# Altium footprint library Headnode.PcbLib: 27 footprints (part 2 of 2)
Each footprint in its own frame and in the unit in brackets; x right, y up, seen from the top. Pads: shape width x height; smd on the part's side, far side on the other; paste and mask are expansions set on the pad; w line width, h text height; cw(c..) or ccw(c..) is an arc to the next point about the centre after c.
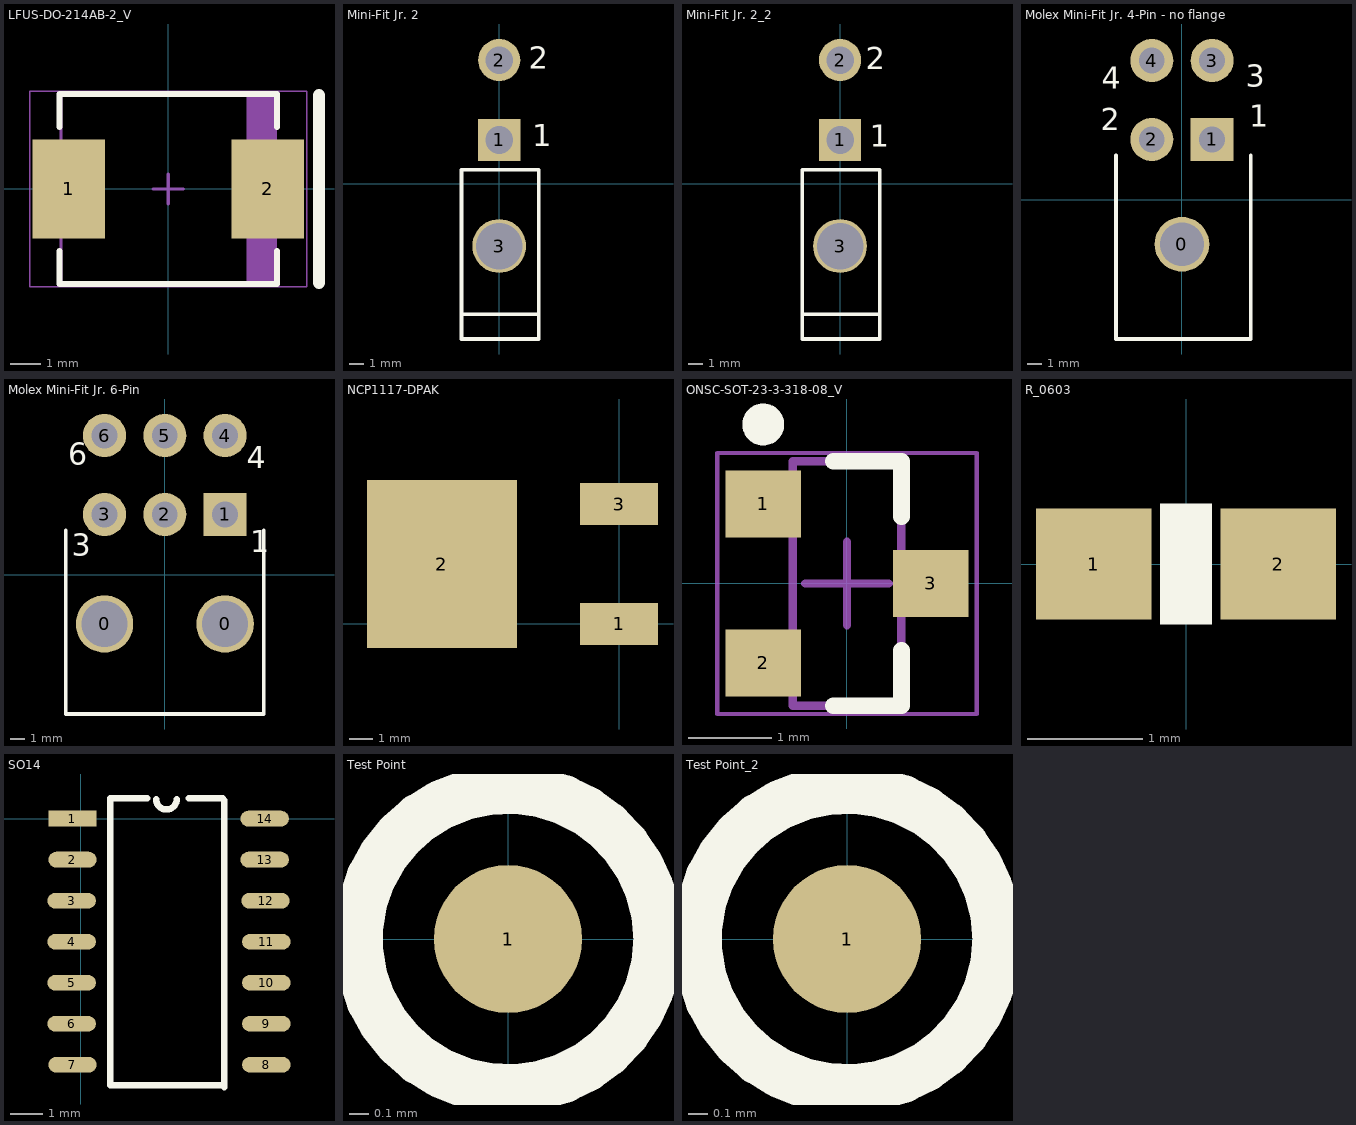
[diagram p1: the footprints below, top view; thin cyan lines are the x and y axes]

## LFUS-DO-214AB-2_V [mm]
pads (2):
  rect 2.4x3.3 smd: 1(-3.3,0) 2(3.3,0)
Top Overlay:
  lines w0.2: -3.6,-2.05 -3.6,-3.15 3.6,-3.15 3.6,-2.05 ; -3.6,2.05 -3.6,3.15 3.6,3.15 3.6,2.05
  lines w0.4: 5,-3.11 5,3.11
Mechanical 13:
  rectangle: 2.599,-3.11 3.555,3.11
  lines w0.1: -3.555,-3.11 3.555,-3.11 3.555,3.11 -3.555,3.11 -3.555,-3.11
Mechanical 15:
  lines w0.05: -4.6,-3.25 4.6,-3.25 4.6,3.25 -4.6,3.25 -4.6,-3.25
  lines w0.1: -0.5,0 0.5,0 ; 0,-0.5 0,0.5
3D body "DIOM6959X26L.step": height 2.62, standoff 0, extent -3.775,-3.11 3.775,3.11

## Mini-Fit Jr. 2 [mm]
pads (3):
  rect 2.9x2.9 hole 1.9: 1(0,3)
  round 2.9 hole 1.9: 2(0,8.5)
  round 3.7 hole 3.2: 3(0,-4.3)
Top Overlay:
  lines w0.254: -2.6,-9 2.625,-9 ; -2.6,0.95 -2.6,-10.7 2.7,-10.7 ; -2.575,0.95 2.725,0.95 2.725,-10.7
  text "2" at 2.032,7.892 h1.52
  text "1" at 2.286,2.558 h1.52
3D body "039300020.stp": height 11.4, standoff -3.6, extent -2.6,-10.867 3.2,9.068

## Mini-Fit Jr. 2_2 [mm]
pads (3):
  rect 2.9x2.9 hole 1.9: 1(0,3)
  round 2.9 hole 1.9: 2(0,8.5)
  round 3.7 hole 3.2: 3(0,-4.3)
Top Overlay:
  lines w0.254: -2.6,-9 2.625,-9 ; -2.6,0.95 -2.6,-10.7 2.7,-10.7 ; -2.575,0.95 2.725,0.95 2.725,-10.7
  text "2" at 1.778,7.874 h1.52
  text "1" at 2.032,2.54 h1.52
3D body "039300020.stp": height 11.4, standoff -3.6, extent -2.6,-10.867 3.2,9.068

## Molex Mini-Fit Jr. 4-Pin - no flange [mm]
pads (5):
  round 3.81 hole 3.048: 0(0,-3.099)
  rect 3x3 hole 1.8: 1(2.1,4.2)
  round 3 hole 1.8: 2(-2.1,4.2) 3(2.1,9.7) 4(-2.1,9.7)
Top Overlay:
  lines w0.254: -4.6,3.1 -4.6,-3.1 -4.6,-9.7 4.8,-9.7 4.8,-3.1 4.8,3.1
  text "1" at 4.69,5.08 h1.52
  text "4" at -5.598,7.747 h1.52
  text "3" at 4.436,7.874 h1.52
  text "2" at -5.652,4.826 h1.52
3D body "039300040.stp": height 11.4, standoff -3.6, extent -4.8,-9.567 5.2,10.368

## Molex Mini-Fit Jr. 6-Pin [mm]
pads (8):
  round 4 hole 3.2: 0(-4.2,-3.429) 0(4.2,-3.429)
  rect 3x3 hole 1.8: 1(4.2,4.2)
  round 3 hole 1.8: 2(0,4.2) 3(-4.2,4.2) 4(4.2,9.7) 5(0,9.7) 6(-4.2,9.7)
Top Overlay:
  lines w0.254: -6.9,3.1 -6.9,-3.1 -6.9,-9.7 6.9,-9.7 6.9,-3.1 6.9,3.1
  text "1" at 5.96,1.572 h1.52
  text "6" at -6.74,7.668 h1.52
  text "4" at 5.706,7.414 h1.52
  text "3" at -6.486,1.318 h1.52
3D body "039300060.stp": height 11.4, standoff -3.6, extent -6.9,-9.7 7.3,10.235

## NCP1117-DPAK [mil]
pads (3):
  rect 130x70 smd: 1(0,0) 3(0,200)
  rect 250x280 smd: 2(-295.28,100)

## ONSC-SOT-23-3-318-08_V [mm]
pads (3):
  rect 0.9x0.8 smd: 1(-1,0.95) 2(-1,-0.95) 3(1,0)
Top Overlay:
  circle w0.25: c-1,1.9 r0.125
  lines w0.2: -0.165,-1.46 0.65,-1.46 0.65,-0.8 ; -0.165,1.46 0.65,1.46 0.65,0.8
Mechanical 13:
  lines w0.1: -0.65,-1.46 -0.65,1.46 0.65,1.46 0.65,-1.46 -0.65,-1.46
Mechanical 15:
  lines w0.05: -1.55,-1.56 -1.55,1.56 1.55,1.56 1.55,-1.56 -1.55,-1.56
  lines w0.1: -0.5,0 0.5,0 ; 0,-0.5 0,0.5
3D body: height 1.11, standoff 0.01, extent -0.65,-1.46 0.65,1.46

## R_0603 [mm]
pads (2):
  rect 1x0.96 smd mask+0.064: 1(-0.8,0) 2(0.8,0)
Top Overlay:
  rectangle: -0.225,-0.525 0.225,0.525
3D body "RES0603.stp": height 0.45, standoff 0, extent -0.8,-0.4 0.8,0.4

## SO14 [mm]
pads (14):
  rect 1.5x0.49 smd: 1(-0.25,0)
  oval 1.5x0.49 smd: 2(-0.25,-1.27) 3(-0.275,-2.54) 4(-0.275,-3.81) 5(-0.275,-5.08) 6(-0.275,-6.35) 7(-0.25,-7.62) 8(5.75,-7.62) 9(5.75,-6.35) 10(5.75,-5.08) 11(5.75,-3.81) 12(5.725,-2.54) 13(5.7,-1.27) 14(5.7,0)
Top Overlay:
  lines w0.2: 2.065,0.625 0.925,0.625 0.925,-8.255 4.45,-8.255 ; 2.34,0.6 ccw(c2.658,0.6) 2.975,0.6 ; 3.35,0.625 4.4,0.625 ; 4.45,-8.315 4.45,0.575
3D body "soic-14.stp": height 1.59, standoff -0.01, extent -0.279,-8.128 5.766,0.508

## Test Point [mil]
pads (1):
  round 30 smd: 1(0,0)
Top Overlay:
  circle w10: c0,0 r30.41

## Test Point_2 [mil]
pads (1):
  round 30 smd: 1(0,0)
Top Overlay:
  circle w10: c0,0 r30.41